# Altium schematic symbol library Schlib_Rosenberger.SchLib: 6 symbols
Pins are listed as number, name and electrical type; pins without a type are passive.

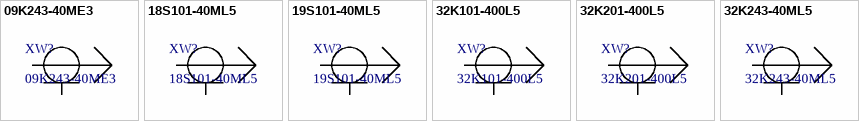
[diagram p0: symbols 09K243-40ME3 to 32K243-40ML5]

## 09K243-40ME3
designator XW?
RF Connector; Part Number: 09K243-40ME3
footprint 09K243-40ME3
pins: 1, 2

## 18S101-40ML5
designator XW?
RF Connector; Part Number: 18S101-40ML5
footprint 18S101-40ML5
pins: 1, 2

## 19S101-40ML5
designator XW?
RF Connector; Part Number: 19S101-40ML5
footprint 19S101-40ML5
pins: 1, 2

## 32K101-400L5
designator XW?
RF Connector; Part Number: 32K101-400L5
footprint 32K101-400L5 (32K101-400L5v)
pins: 1, 2

## 32K201-400L5
designator XW?
RF Connector; Part Number: 32K201-400L5
footprint 32K201-400L5
pins: 1, 2

## 32K243-40ML5
designator XW?
RF Connector; Part Number: 32K243-40ML5
footprint 32K243-40ML5
pins: 1, 2